# EAGLE library part PTS820J25MSMTRLFS (library SamacSys_Parts)
Tactile Switches Microminiature SMT Top Actuated Source: Datasheet <https://www.ckswitches.com/media/1474/pts820.pdf>
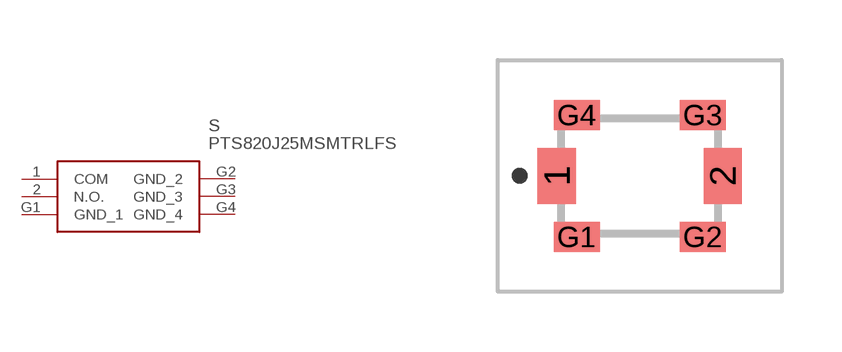
[diagram p9: symbol with the pads of PTS820J25MSMTRLFS; footprint PTS820J25MSMTRLFS]

Designator prefix S

## PTS820J25MSMTRLFS (DESCRIPTION: Tactile Switches Microminiature SMT Top Actuated; HEIGHT: 1.5mm; MANUFACTURER_NAME: C & K COMPONENTS; MANUFACTURER_PART_NUMBER: PTS820J25MSMTRLFS; MOUSER_PART_NUMBER: 611-PTS820J25MSMTR; MOUSER_PRICE-STOCK: https://www.mouser.com/Search/Refine.aspx?Keyword=611-PTS820J25MSMTR)  [PTS820J25MSMTRLFS]
1  COM
2  N.O.
G1  GND_1
G2  GND_2
G3  GND_3
G4  GND_4

## Footprint PTS820J25MSMTRLFS (pad centres in mm)
PTS820J25MSMTRLFS-1
smd 0.95 x 1.4: 1 -2.075,0; 2 2.075,0
smd 1.15 x 0.75: G1 -1.575,-1.525; G2 1.575,-1.525; G3 1.575,1.525; G4 -1.575,1.525